# Altium schematic symbol library Schlib1.SchLib: 3 symbols
Pins are listed as number, name and electrical type; pins without a type are passive.

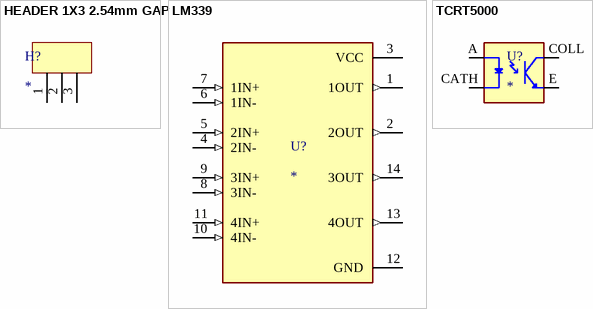
[diagram p0: symbols HEADER 1X3 2.54mm GAP to TCRT5000]

## HEADER 1X3 2.54mm GAP
designator H?
HEADER 1X3 2.54mm GAP
footprint header 1x3
pins: 1, 2, 3

## LM339
designator U?
Comparator Differential CMOS, MOS, Open-Collector, TTL 14-SOIC                                          LM339 is used in applications where a comparison between two voltage signals is required. In addition with four of those comparators on board the device can compare four pairs of voltage signals at a time which comes in handy in some applications.; MF: Texas Instruments; Package: SOIC-14 Texas Instruments; Value: *; Price: None; MP: LM339; Availability: Unavailable; SnapEDA_Link: https://www.snapeda.com/parts/LM339/Texas%20Instruments/view-part/2886154/?ref=snap
footprint SOIC127P600X175-14N
pins: 1 1OUT (out), 2 2OUT (out), 3 VCC (power), 4 2IN- (in), 5 2IN+ (in), 6 1IN- (in), 7 1IN+ (in), 8 3IN- (in), 9 3IN+ (in), 10 4IN- (in), 11 4IN+ (in), 12 GND (power), 13 4OUT (out), 14 3OUT (out)

## TCRT5000
designator U?
950 nm 60 mA Through Hole Reflective Optical Sensor with Transistor Output; MP: TCRT5000; Value: *; Availability: Unavailable; Price: None; Package: None
footprint OPTO_TCRT5000
pins: A, CATH, COLL, E